# EAGLE library part 78646-3001 (library 78646-3001)
Conn Micro SIM Card SKT 6 POS 2.54mm Solder RA SMD 0.5A/Contact Embossed T/R
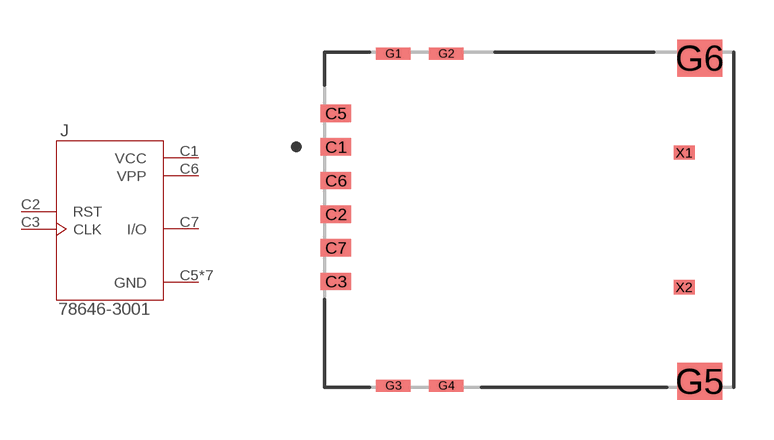
[diagram p0: symbol with the pads of MOLEX_78646-3001; footprint MOLEX_78646-3001]

Designator prefix J

## 78646-3001 (Availability: Unavailable; Description: 6 Position Card Connector Micro SIM Surface Mount, Right Angle Gold; MF: Molex; MP: 78646-3001; Package: None; Price: None)  [MOLEX_78646-3001]
C1  VCC  pwr
C2  RST  in
C3  CLK  in
C5  GND  pwr
C6  VPP  pwr
C7  I/O
G1  GND  pwr
G2  GND  pwr
G3  GND  pwr
G4  GND  pwr
G5  GND  pwr
G6  GND  pwr

## Footprint MOLEX_78646-3001 (pad centres in mm)
smd 1.15 x 0.65: C1 -7.295,2.755; C2 -7.295,0.215; C3 -7.295,-2.325; C5 -7.295,4.025; C6 -7.295,1.485; C7 -7.295,-1.055
smd 1.3 x 0.45: G1 -5.125,6.27; G2 -3.125,6.27; G3 -5.125,-6.27; G4 -3.125,-6.27
smd 1.7 x 1.4: G5 6.435,-6.105; G6 6.435,6.105
smd 0.8 x 0.54: X1 5.855,2.54; X2 5.855,-2.54